# Altium schematic symbol library RC0805JR-0710KL.SchLib: 1 symbol
Pins are listed as number, name and electrical type; pins without a type are passive.

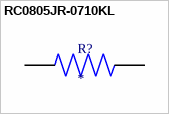
[diagram p0: symbol RC0805JR-0710KL]

## RC0805JR-0710KL
designator R?
RESISTOR THICK FILM 5% 0.125W; MF: {'manufacturer': u'YAGEO'}; MP: RC0805JR-0710KL; Package: None; Price: None; Value: *; Availability: Unavailable
pins: 1, 2